# Altium schematic symbol library HW.SchLib: 328 symbols (part 5 of 10)
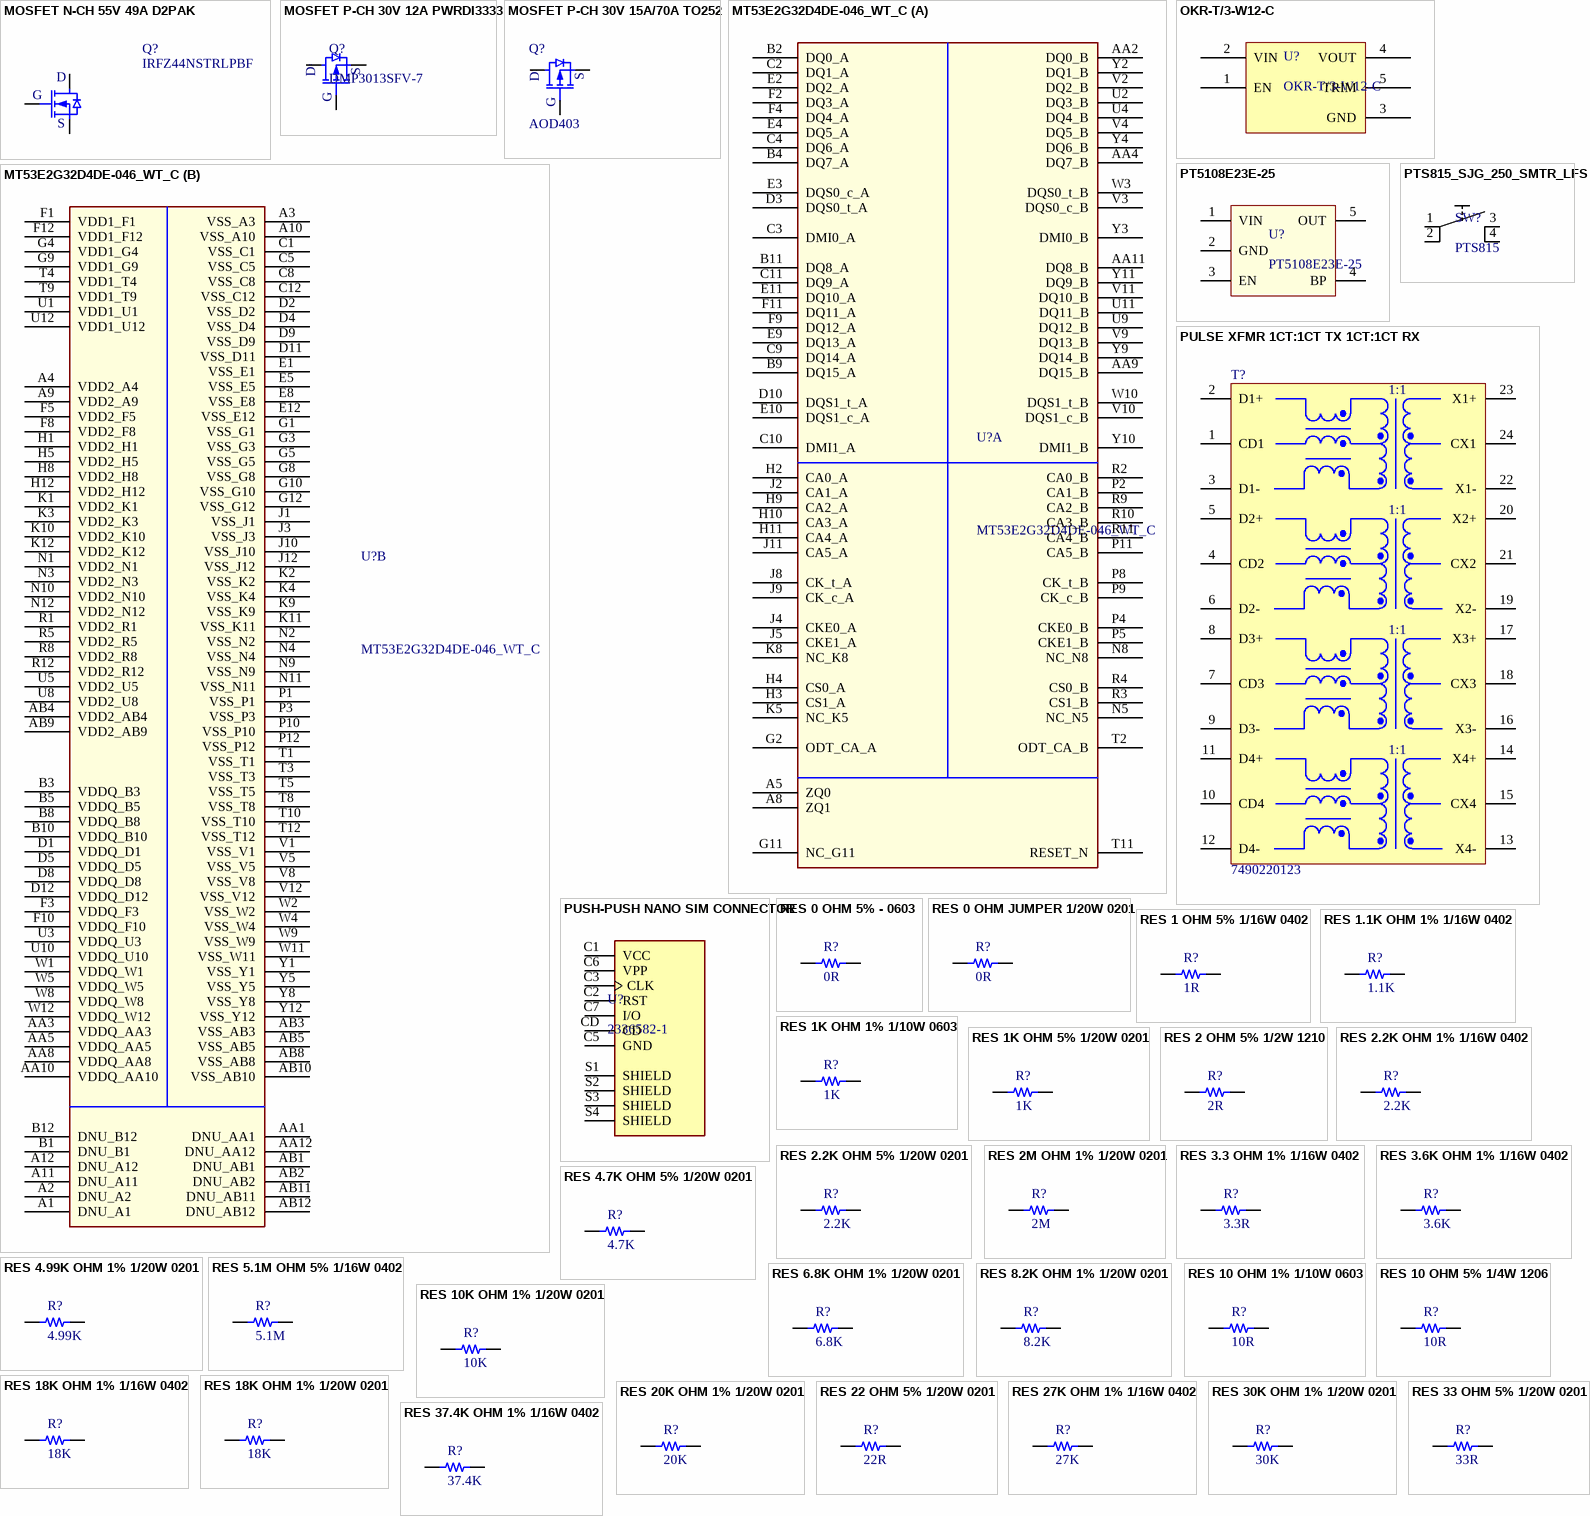
[diagram p27: symbols MOSFET N-CH 55V 49A D2PAK to RES 37.4K OHM 1% 1/16W 0402]

## RES 0 OHM JUMPER 1/20W 0201
designator R?, comment 0R
Zero Ohm Resistor, Jumper, 0201 [0603 Metric], Thick Film, 50 mW, 500 mA, Surface Mount; Manufacturer: Yageo; Manufacturer Part Number: RC0201JR-070RL; Power Rating: 50mW; Tolerance: 5%; Voltage Rating: 25V; Temperature Coefficient: 200ppm/°C; Supplier 1: Future Electronics; RoHS: Yes; Category: Chip SMD Resistors; Stock 1: 5200000; Pricing 1: 10000=0.0013, 50000=0.0012, 200000=0.0012, 500000=0.0011, 1250000=0.001 (USD); Case/Package: 0201; Contact Plating: Tin,Matte; Case Code (Metric): 0603; Case Code (Imperial): 0201; Weight: 6E-06oz; Size Code: 0201; Min Operating Temperature: -55°C; Max Operating Temperature: 125°C; Resistor Type: Thick Film; Packaging: Tape and Reel; Resistance: 0R; Package Quantity: 1; Series: RC; Number of Terminations: 2; Termination: SMD/SMT; Max Power Dissipation: 50mW; Voltage Rating (DC): 25V; Features: Moisture Resistant; Resistance Tolerance: 5%; Length: 0.024inch; Width: 0.012inch; Height: 0.01inch; RoHS Compliant: Yes; Lead Free: 5697LeadFree; Reach SVHC Compliant: Unknown; ComponentLink1URL: https://datasheet.ciiva.com/7672/1563626-7672248.pdf?src-supplier=Element14; ComponentLink1Description: https://datasheet.ciiva.com/7672/1563626-7672248.pdf?src-supplier=Element14; ComponentLink2URL: https://datasheet.ciiva.com/7660/1421516-7660808.pdf?src-supplier=Element14; ComponentLink2Description: https://datasheet.ciiva.com/7660/1421516-7660808.pdf?src-supplier=Element14; ComponentLink3URL: https://datasheet.ciiva.com/8896/pyu-rc0201-51-rohs-l-8-8896143.pdf?src-supplier=Avnet; ComponentLink3Description: https://datasheet.ciiva.com/8896/pyu-rc0201-51-rohs-l-8-8896143.pdf?src-supplier=Avnet; ComponentLink4URL: https://datasheet.ciiva.com/7672/1563626-7672247.pdf?src-supplier=Element14; ComponentLink4Description: https://datasheet.ciiva.com/7672/1563626-7672247.pdf?src-supplier=Element14; ComponentLink5URL: https://datasheet.ciiva.com/46391/1421516-46391340.pdf?src-supplier=Element14; ComponentLink5Description: https://datasheet.ciiva.com/46391/1421516-46391340.pdf?src-supplier=Element14; Supplier Part Number 1: 9983388
footprint R0201
pins: 1, 2

## RES 1 OHM 5% 1/16W 0402
designator R?, comment 1R
SMD Chip Resistor, 1 Ohm, ± 5%, 63 mW, 0402 [1005 Metric], Thick Film, General Purpose; Manufacturer: Yageo; Manufacturer Part Number: RC0402JR-071RL; Power Rating: 62.5mW; Voltage Rating: 50V; Temperature Coefficient: 200ppm/°C; Max Power Dissipation: 63mW; Supplier 1: Arrow Electronics; RoHS: Yes; Category: Chip SMD Resistors; Stock 1: 90000; Pricing 1: 10000=0.0018, 50000=0.0018, 100000=0.0017 (USD); Case/Package: 0402; Case Code (Imperial): 0402; Case Code (Metric): 1005; Size Code: 0402; Min Operating Temperature: -55°C; Max Operating Temperature: 155°C; Packaging: Tape and Reel; Resistance: 1R; Tolerance: 5%; Termination: SMD/SMT; Resistor Type: Thick Film; Voltage Rating (DC): 50V; Features: Moisture Resistant; Series: RC; Number of Terminations: 2; Resistance Tolerance: 5%; Lead Free: Lead Free; RoHS Compliant: Yes; Reach SVHC Compliant: Unknown; ComponentLink1URL: https://datasheet.ciiva.com/7983/1018594-7983561.pdf?src-supplier=Element14; ComponentLink1Description: https://datasheet.ciiva.com/7983/1018594-7983561.pdf?src-supplier=Element14; ComponentLink2URL: https://datasheet.ciiva.com/16747/pyu-rc0402-51-rohs-l-6-r-16747305.pdf?src-supplier=Future+Electronics; ComponentLink2Description: https://datasheet.ciiva.com/16747/pyu-rc0402-51-rohs-l-6-r-16747305.pdf?src-supplier=Future+Electronics; Supplier Part Number 1: RC0402JR-071RL
footprint R0402B/1005MM
pins: 1, 2

## RES 1.1K OHM 1% 1/16W 0402
designator R?, comment 1.1K
SMD Chip Resistor, 1.1 kOhm, ± 1%, 63 mW, 0402 [1005 Metric], Thick Film, General Purpose; Manufacturer: Yageo; Manufacturer Part Number: AC0402FR-071K1L; Voltage Rating: 50V; Supplier 1: Future Electronics; RoHS: Yes; Category: Chip SMD Resistors; Stock 1: 140000; Pricing 1: 10000=0.0024, 50000=0.0023, 300000=0.0021, 1000000=0.002, 3000000=0.0019 (USD); ComponentLink1URL: http://www.yageo.com/NewPortal/yageodocoutput?fileName=/pdf/R-Chip/PYu-AC_51_RoHS_L_6.pdf&src-supplier=Digikey; ComponentLink1Description: http://www.yageo.com/NewPortal/yageodocoutput?fileName=/pdf/R-Chip/PYu-AC_51_RoHS_L_6.pdf&src-supplier=Digikey; ComponentLink2URL: http://www.yageo.com/NewPortal/yageodocoutput?fileName=/pdf/R-Chip/PYu-AC_51_RoHS_L_5.pdf&src-supplier=Digikey; ComponentLink2Description: http://www.yageo.com/NewPortal/yageodocoutput?fileName=/pdf/R-Chip/PYu-AC_51_RoHS_L_5.pdf&src-supplier=Digikey; ComponentLink3URL: http://www.yageo.com/documents/recent/PYu-AC_51_RoHS_L_2_revised.pdf?src-supplier=Future+Electronics; ComponentLink3Description: http://www.yageo.com/documents/recent/PYu-AC_51_RoHS_L_2_revised.pdf?src-supplier=Future+Electronics; ComponentLink4URL: https://datasheet.octopart.com/AC0402FR-071K1L-Yageo-datasheet-151884373.pdf?src-supplier=Future+Electronics; ComponentLink4Description: https://datasheet.octopart.com/AC0402FR-071K1L-Yageo-datasheet-151884373.pdf?src-supplier=Future+Electronics; Supplier Part Number 1: 5025351
footprint R0402B/1005MM
pins: 1, 2

## RES 1K OHM 1% 1/10W 0603
designator R?, comment 1K
SMD Chip Resistor, 1 kOhm, ± 1%, 100 mW, 0603 [1608 Metric], Thick Film, General Purpose; Manufacturer: Yageo; Manufacturer Part Number: RC0603FR-071KL; Resistance: 1kR; Temperature Coefficient: 100ppm/°C; Power Rating: 100mW; Voltage Rating: 50V; Supplier 1: Future Electronics; RoHS: Yes; Category: Chip SMD Resistors; Stock 1: 22880000; Pricing 1: 5000=0.0014, 50000=0.0014, 150000=0.0013, 375000=0.0013, 1000000=0.0012 (USD); Case/Package: 0603; Contact Plating: Tin,Matte; Case Code (Imperial): 0603; Case Code (Metric): 1608; Size Code: 0603; Min Operating Temperature: -55°C; Max Operating Temperature: 155°C; Tolerance: 1%; Resistor Type: Thick Film; Packaging: Tape and Reel; Termination: SMD/SMT; Features: Moisture Resistant; Series: RC; Max Power Dissipation: 100mW; Number of Terminations: 2; Technology: THICK FILM; Resistance Tolerance: 1%; Construction: Rectangular; Length: 1.6mm; Height: 0.45mm; Depth: 0.8mm; Reach SVHC Compliant: No; Lead Free: 5697LeadFree; Military Standard: Not; RoHS Compliant: Yes; Supplier Part Number 1: 4016291
footprint R0603B/1608MM (Chip Resistor, 2-Leads, Body 1.6x0.8mm, IPC High Density)
pins: 1, 2

## RES 1K OHM 5% 1/20W 0201
designator R?, comment 1K
SMD Chip Resistor, 1 kOhm, ± 5%, 50 mW, 0201 [0603 Metric], Thick Film, General Purpose; Manufacturer: Yageo; Manufacturer Part Number: RC0201JR-071KL; Voltage Rating (DC): 25V; Supplier 1: Future Electronics; RoHS: Yes; Category: Chip SMD Resistors; Stock 1: 700000; Pricing 1: 10000=0.0012, 50000=0.0012, 200000=0.0011, 500000=0.0011, 1250000=0.001 (USD); Lead Free: 5697LeadFree; ComponentLink1URL: https://datasheet.ciiva.com/46391/1421516-46391293.pdf?src-supplier=Element14; ComponentLink1Description: https://datasheet.ciiva.com/46391/1421516-46391293.pdf?src-supplier=Element14; ComponentLink2URL: https://datasheet.ciiva.com/7660/1421516-7660811.pdf?src-supplier=Element14; ComponentLink2Description: https://datasheet.ciiva.com/7660/1421516-7660811.pdf?src-supplier=Element14; ComponentLink3URL: https://datasheet.ciiva.com/7672/1563626-7672264.pdf?src-supplier=Element14; ComponentLink3Description: https://datasheet.ciiva.com/7672/1563626-7672264.pdf?src-supplier=Element14; ComponentLink4URL: https://datasheet.ciiva.com/7672/1563626-7672265.pdf?src-supplier=Element14; ComponentLink4Description: https://datasheet.ciiva.com/7672/1563626-7672265.pdf?src-supplier=Element14; ComponentLink5URL: https://datasheet.ciiva.com/8896/pyu-rc0201-51-rohs-l-8-8896175.pdf?src-supplier=Avnet; ComponentLink5Description: https://datasheet.ciiva.com/8896/pyu-rc0201-51-rohs-l-8-8896175.pdf?src-supplier=Avnet; ComponentLink6URL: https://datasheet.ciiva.com/2462/pyu-r-int-thick-7-2462829.pdf?src-supplier=Digikey; ComponentLink6Description: https://datasheet.ciiva.com/2462/pyu-r-int-thick-7-2462829.pdf?src-supplier=Digikey; ComponentLink7URL: https://datasheet.ciiva.com/2462/pyu-r-int-thick-7-2462830.pdf?src-supplier=Digikey; ComponentLink7Description: https://datasheet.ciiva.com/2462/pyu-r-int-thick-7-2462830.pdf?src-supplier=Digikey; ComponentLink8URL: https://datasheet.ciiva.com/2462/pyu-r-int-thick-7-2462831.pdf?src-supplier=Digikey; ComponentLink8Description: https://datasheet.ciiva.com/2462/pyu-r-int-thick-7-2462831.pdf?src-supplier=Digikey; Supplier Part Number 1: 8889099
footprint R0201
pins: 1, 2

## RES 2 OHM 5% 1/2W 1210
designator R?, comment 2R
Res Thick Film 1210 2 Ohm 5% 1/2W ±200ppm/°C Molded SMD SMD Paper T/R; Manufacturer: Yageo; Manufacturer Part Number: RC1210JR-072RL; Supplier 1: Digikey; RoHS: Yes; Category: Chip SMD Resistors; Stock 1: 5088; Pricing 1: 1=0.21, 10=0.113, 50=0.0772, 100=0.0664, 500=0.04876, 1000=0.0432 (USD); ComponentLink1URL: https://datasheet.ciiva.com/16741/pyu-rc1210-51-rohs-l-4-16741479.pdf?src-supplier=Future+Electronics; ComponentLink1Description: https://datasheet.ciiva.com/16741/pyu-rc1210-51-rohs-l-4-16741479.pdf?src-supplier=Future+Electronics; Supplier Part Number 1: 13-RC1210JR-072RLCT-ND
footprint R1210/3225MM
pins: 1, 2

## RES 2.2K OHM 1% 1/16W 0402
designator R?, comment 2.2K
SMD Chip Resistor, 2.2 kOhm, ± 1%, 62.5 mW, 0402 [1005 Metric], Thick Film, General Purpose; Manufacturer: Yageo; Manufacturer Part Number: RC0402FR-072K2L; Resistance: 2.2kR; Power Rating: 62.5mW; Voltage Rating: 50V; Temperature Coefficient: 100ppm/°C; Max Power Dissipation: 63mW; Supplier 1: Future Electronics; RoHS: Yes; Category: Chip SMD Resistors; Stock 1: 2730000; Pricing 1: 10000=0.0011, 100000=0.001, 300000=0.001, 750000=0.001, 2000000=0.0009 (USD); Case/Package: 0402; Case Code (Imperial): 0402; Case Code (Metric): 1005; Weight: 2.3E-05oz; Size Code: 0402; Min Operating Temperature: -55°C; Max Operating Temperature: 155°C; Resistor Type: Thick Film; Packaging: Tape and Reel; Tolerance: 1%; Termination: SMD/SMT; Features: Moisture Resistant; Series: RC; Number of Terminations: 2; Resistance Tolerance: 1%; Construction: Rectangular; Technology: THICK FILM; Voltage Rating (AC): 50V; Length: 1mm; Width: 0.5mm; Height: 0.35mm; Depth: 0.5mm; RoHS Compliant: Yes; Reach SVHC Compliant: No; Military Standard: Not; Lead Free: Lead Free; ComponentLink1URL: https://datasheet.ciiva.com/11808/0900766b80c66297-11808786.pdf?src-supplier=Rs; ComponentLink1Description: https://datasheet.ciiva.com/11808/0900766b80c66297-11808786.pdf?src-supplier=Rs; ComponentLink2URL: https://datasheet.ciiva.com/7983/1018594-7983515.pdf?src-supplier=Element14; ComponentLink2Description: https://datasheet.ciiva.com/7983/1018594-7983515.pdf?src-supplier=Element14; ComponentLink3URL: https://datasheet.ciiva.com/46383/1018594-46383563.pdf?src-supplier=Element14; ComponentLink3Description: https://datasheet.ciiva.com/46383/1018594-46383563.pdf?src-supplier=Element14; ComponentLink4URL: https://datasheet.ciiva.com/12577/pyu-rc0402-51-rohs-l-6-r-12577429.pdf?src-supplier=Mouser; ComponentLink4Description: https://datasheet.ciiva.com/12577/pyu-rc0402-51-rohs-l-6-r-12577429.pdf?src-supplier=Mouser; ComponentLink5URL: https://datasheet.ciiva.com/7849/1018594-7849929.pdf?src-supplier=Element14; ComponentLink5Description: https://datasheet.ciiva.com/7849/1018594-7849929.pdf?src-supplier=Element14; ComponentLink6URL: https://datasheet.ciiva.com/7849/1018594-7849928.pdf?src-supplier=Element14; ComponentLink6Description: https://datasheet.ciiva.com/7849/1018594-7849928.pdf?src-supplier=Element14; ComponentLink7URL: https://datasheet.ciiva.com/16741/pyu-rc0402-51-rohs-l-6-r-16741015.pdf?src-supplier=Future+Electronics; ComponentLink7Description: https://datasheet.ciiva.com/16741/pyu-rc0402-51-rohs-l-6-r-16741015.pdf?src-supplier=Future+Electronics; Supplier Part Number 1: 6626931
footprint R0402B/1005MM
pins: 1, 2

## RES 2.2K OHM 5% 1/20W 0201
designator R?, comment 2.2K
SMD Chip Resistor, 2.2 kOhm, ± 5%, 50 mW, 0201 [0603 Metric], Thick Film, General Purpose; Manufacturer: Yageo; Manufacturer Part Number: RC0201JR-072K2L; Voltage Rating (DC): 25V; Supplier 1: Future Electronics; RoHS: Yes; Category: Chip SMD Resistors; Stock 1: 570000; Pricing 1: 10000=0.0013, 50000=0.0012, 200000=0.0012, 500000=0.0011, 1250000=0.001 (USD); Lead Free: 5697LeadFree; ComponentLink1URL: https://datasheet.ciiva.com/7672/1563626-7672277.pdf?src-supplier=Element14; ComponentLink1Description: https://datasheet.ciiva.com/7672/1563626-7672277.pdf?src-supplier=Element14; ComponentLink2URL: https://datasheet.ciiva.com/7983/1421516-7983483.pdf?src-supplier=Element14; ComponentLink2Description: https://datasheet.ciiva.com/7983/1421516-7983483.pdf?src-supplier=Element14; ComponentLink3URL: https://datasheet.ciiva.com/26829/getdatasheetpartid-729179-26829877.pdf?src-supplier=Verical; ComponentLink3Description: https://datasheet.ciiva.com/26829/getdatasheetpartid-729179-26829877.pdf?src-supplier=Verical; ComponentLink4URL: https://datasheet.ciiva.com/2522/pyu-r-int-thick-7-2522713.pdf?src-supplier=Digikey; ComponentLink4Description: https://datasheet.ciiva.com/2522/pyu-r-int-thick-7-2522713.pdf?src-supplier=Digikey; ComponentLink5URL: https://datasheet.ciiva.com/2522/pyu-r-int-thick-7-2522714.pdf?src-supplier=Digikey; ComponentLink5Description: https://datasheet.ciiva.com/2522/pyu-r-int-thick-7-2522714.pdf?src-supplier=Digikey; ComponentLink6URL: https://datasheet.ciiva.com/2522/pyu-r-int-thick-7-2522715.pdf?src-supplier=Digikey; ComponentLink6Description: https://datasheet.ciiva.com/2522/pyu-r-int-thick-7-2522715.pdf?src-supplier=Digikey; ComponentLink7URL: https://datasheet.ciiva.com/5989/1563626-5989608.pdf?src-supplier=Farnell; ComponentLink7Description: https://datasheet.ciiva.com/5989/1563626-5989608.pdf?src-supplier=Farnell; ComponentLink8URL: https://datasheet.ciiva.com/5989/1563626-5989609.pdf?src-supplier=Farnell; ComponentLink8Description: https://datasheet.ciiva.com/5989/1563626-5989609.pdf?src-supplier=Farnell; ComponentLink9URL: https://datasheet.ciiva.com/8894/pyu-rc0201-51-rohs-l-8-8894629.pdf?src-supplier=Avnet; ComponentLink9Description: https://datasheet.ciiva.com/8894/pyu-rc0201-51-rohs-l-8-8894629.pdf?src-supplier=Avnet; Supplier Part Number 1: 3342789
footprint R0201
pins: 1, 2

## RES 2M OHM 1% 1/20W 0201
designator R?, comment 2M
SMD Chip Resistor, 2 MOhm, ± 1%, 50 mW, 0201 [0603 Metric], Thick Film, General Purpose; Manufacturer: Yageo; Manufacturer Part Number: RC0201FR-072ML; Voltage Rating: 25V; Supplier 1: Future Electronics; RoHS: Yes; Category: Chip SMD Resistors; Stock 1: 30000; Pricing 1: 10000=0.0012, 50000=0.0012, 200000=0.0011, 500000=0.0011, 1250000=0.001 (USD); ComponentLink1URL: http://www.yageo.com/NewPortal/_en/search/productDocs.jsp?YageoPartNumber=RC0201FR-072ML&src-supplier=Digikey; ComponentLink1Description: http://www.yageo.com/NewPortal/_en/search/productDocs.jsp?YageoPartNumber=RC0201FR-072ML&src-supplier=Digikey; ComponentLink2URL: https://datasheet.octopart.com/RC0201FR-072ML-Yageo-datasheet-164759695.pdf?src-supplier=Future+Electronics; ComponentLink2Description: https://datasheet.octopart.com/RC0201FR-072ML-Yageo-datasheet-164759695.pdf?src-supplier=Future+Electronics; Supplier Part Number 1: 7095703
footprint R0201
pins: 1, 2

## RES 3.3 OHM 1% 1/16W 0402
designator R?, comment 3.3R
SMD Chip Resistor, 3.3 Ohm, ± 1%, 63 mW, 0402 [1005 Metric], Thick Film, General Purpose; Manufacturer: Yageo; Manufacturer Part Number: RC0402FR-073R3L; Supplier 1: Future Electronics; RoHS: Yes; Category: Chip SMD Resistors; Stock 1: 720000; Pricing 1: 10000=0.0028, 40000=0.0027, 200000=0.0026, 400000=0.0025, 1250000=0.0024 (USD); ComponentLink1URL: https://datasheet.ciiva.com/7849/1018594-7849999.pdf?src-supplier=Element14; ComponentLink1Description: https://datasheet.ciiva.com/7849/1018594-7849999.pdf?src-supplier=Element14; ComponentLink2URL: https://datasheet.ciiva.com/8893/pyu-rc0402-51-rohs-l-6-8893711.pdf?src-supplier=Avnet; ComponentLink2Description: https://datasheet.ciiva.com/8893/pyu-rc0402-51-rohs-l-6-8893711.pdf?src-supplier=Avnet; Supplier Part Number 1: 1935006
footprint R0402B/1005MM
pins: 1, 2

## RES 3.6K OHM 1% 1/16W 0402
designator R?, comment 3.6K
SMD Chip Resistor, 3.6 kOhm, ± 1%, 63 mW, 0402 [1005 Metric], Thick Film, General Purpose; Manufacturer: Yageo; Manufacturer Part Number: RC0402FR-073K6L; Resistance: 3.6kR; Power Rating: 62.5mW; Voltage Rating: 50V; Temperature Coefficient: 100ppm/°C; Max Power Dissipation: 63mW; Supplier 1: Future Electronics; RoHS: Yes; Category: Chip SMD Resistors; Stock 1: 180000; Pricing 1: 10000=0.0008, 100000=0.0007, 300000=0.0007, 750000=0.0007, 2000000=0.0006 (USD); Case/Package: 0402; Number of Pins: 2; Case Code (Imperial): 0402; Case Code (Metric): 1005; Weight: 2.3E-05oz; Size Code: 0402; Min Operating Temperature: -55°C; Max Operating Temperature: 155°C; Package Quantity: 1; Tolerance: 1%; Packaging: Tape and Reel; Resistor Type: Thick Film; Termination: SMD/SMT; Number of Terminations: 2; Voltage Rating (DC): 50V; Features: Moisture Resistant; Series: RC; Construction: Rectangular; Resistance Tolerance: 1%; Length: 1mm; Width: 0.5mm; Height: 0.016inch; Depth: 0.5mm; Reach SVHC Compliant: No; Military Standard: Not; Lead Free: Lead Free; RoHS Compliant: Yes; ComponentLink1URL: https://datasheet.ciiva.com/2553/pyu-r-int-thick-7-2553270.pdf?src-supplier=Digikey; ComponentLink1Description: https://datasheet.ciiva.com/2553/pyu-r-int-thick-7-2553270.pdf?src-supplier=Digikey; ComponentLink2URL: https://datasheet.ciiva.com/2553/pyu-r-int-thick-7-2553271.pdf?src-supplier=Digikey; ComponentLink2Description: https://datasheet.ciiva.com/2553/pyu-r-int-thick-7-2553271.pdf?src-supplier=Digikey; ComponentLink3URL: https://datasheet.ciiva.com/2553/pyu-r-int-thick-7-2553269.pdf?src-supplier=Digikey; ComponentLink3Description: https://datasheet.ciiva.com/2553/pyu-r-int-thick-7-2553269.pdf?src-supplier=Digikey; ComponentLink4URL: https://datasheet.ciiva.com/15189/getdatasheetpartid-326454-15189451.pdf?src-supplier=Verical; ComponentLink4Description: https://datasheet.ciiva.com/15189/getdatasheetpartid-326454-15189451.pdf?src-supplier=Verical; Supplier Part Number 1: 6373997
footprint R0402B/1005MM
pins: 1, 2

## RES 4.7K OHM 5% 1/20W 0201
designator R?, comment 4.7K
SMD Chip Resistor, 4.7 kOhm, ± 5%, 50 mW, 0201 [0603 Metric], Thick Film, General Purpose; Manufacturer: Yageo; Manufacturer Part Number: RC0201JR-074K7L; Voltage Rating (DC): 25V; Supplier 1: Future Electronics; RoHS: Yes; Category: Chip SMD Resistors; Stock 1: 1670000; Pricing 1: 10000=0.0011, 50000=0.0011, 250000=0.001, 500000=0.001, 1500000=0.0009 (USD); Lead Free: 5697LeadFree; ComponentLink1URL: https://datasheet.ciiva.com/2462/pyu-r-int-thick-7-2462791.pdf?src-supplier=Digikey; ComponentLink1Description: https://datasheet.ciiva.com/2462/pyu-r-int-thick-7-2462791.pdf?src-supplier=Digikey; ComponentLink2URL: https://datasheet.ciiva.com/2462/pyu-r-int-thick-7-2462792.pdf?src-supplier=Digikey; ComponentLink2Description: https://datasheet.ciiva.com/2462/pyu-r-int-thick-7-2462792.pdf?src-supplier=Digikey; ComponentLink3URL: https://datasheet.ciiva.com/2462/pyu-r-int-thick-7-2462790.pdf?src-supplier=Digikey; ComponentLink3Description: https://datasheet.ciiva.com/2462/pyu-r-int-thick-7-2462790.pdf?src-supplier=Digikey; ComponentLink4URL: https://datasheet.ciiva.com/7672/1563626-7672295.pdf?src-supplier=Element14; ComponentLink4Description: https://datasheet.ciiva.com/7672/1563626-7672295.pdf?src-supplier=Element14; ComponentLink5URL: https://datasheet.ciiva.com/7672/1563626-7672296.pdf?src-supplier=Element14; ComponentLink5Description: https://datasheet.ciiva.com/7672/1563626-7672296.pdf?src-supplier=Element14; Supplier Part Number 1: 7808587
footprint R0201
pins: 1, 2

## RES 4.99K OHM 1% 1/20W 0201
designator R?, comment 4.99K
SMD Chip Resistor, 4.99 kOhm, ± 1%, 50 mW, 0201 [0603 Metric], Thick Film, General Purpose; Manufacturer: Yageo; Manufacturer Part Number: RC0201FR-074K99L; Voltage Rating: 25V; Supplier 1: Future Electronics; RoHS: Yes; Category: Chip SMD Resistors; Stock 1: 210000; Pricing 1: 10000=0.0018, 50000=0.0017, 200000=0.0016, 500000=0.0016, 1250000=0.0015 (USD); Lead Free: 5697LeadFree; ComponentLink1URL: https://www.yageo.com/upload/media/product/productsearch/datasheet/rchip/PYu-RC_Group_51_RoHS_L_11.pdf?src-supplier=Digikey; ComponentLink1Description: https://www.yageo.com/upload/media/product/productsearch/datasheet/rchip/PYu-RC_Group_51_RoHS_L_11.pdf?src-supplier=Digikey; ComponentLink2URL: http://www.yageo.com/documents/recent/PYu-RC_Group_51_RoHS_L_10.pdf?src-supplier=Digikey; ComponentLink2Description: http://www.yageo.com/documents/recent/PYu-RC_Group_51_RoHS_L_10.pdf?src-supplier=Digikey; ComponentLink3URL: https://datasheet.octopart.com/RC0201FR-074K99L-Yageo-datasheet-164759695.pdf?src-supplier=Future+Electronics; ComponentLink3Description: https://datasheet.octopart.com/RC0201FR-074K99L-Yageo-datasheet-164759695.pdf?src-supplier=Future+Electronics; Supplier Part Number 1: 6066788
footprint R0201
pins: 1, 2

## RES 5.1M OHM 5% 1/16W 0402
designator R?, comment 5.1M
SMD Chip Resistor, 5.1 MOhm, ± 5%, 63 mW, 0402 [1005 Metric], Thick Film, General Purpose; Manufacturer: Yageo; Manufacturer Part Number: RC0402JR-075M1L; Supplier 1: Future Electronics; RoHS: Yes; Category: Chip SMD Resistors; Stock 1: 20000; Pricing 1: 10000=0.0008, 100000=0.0007, 300000=0.0007, 750000=0.0007, 2000000=0.0006 (USD); ComponentLink1URL: https://datasheet.ciiva.com/17086/pyu-rc0402-51-rohs-l-6-r-17086462.pdf?src-supplier=Future+Electronics; ComponentLink1Description: https://datasheet.ciiva.com/17086/pyu-rc0402-51-rohs-l-6-r-17086462.pdf?src-supplier=Future+Electronics; ComponentLink2URL: https://datasheet.ciiva.com/8892/pyu-rc0402-51-rohs-l-6-8892758.pdf?src-supplier=Avnet; ComponentLink2Description: https://datasheet.ciiva.com/8892/pyu-rc0402-51-rohs-l-6-8892758.pdf?src-supplier=Avnet; Supplier Part Number 1: 3916483
footprint R0402B/1005MM
pins: 1, 2

## RES 6.8K OHM 1% 1/20W 0201
designator R?, comment 6.8K
SMD Chip Resistor, 6.8 kOhm, ± 1%, 50 mW, 0201 [0603 Metric], Thick Film, General Purpose; Manufacturer: Yageo; Manufacturer Part Number: RC0201FR-076K8L; Supplier 1: Future Electronics; RoHS: Yes; Category: Chip SMD Resistors; Stock 1: 80000; Pricing 1: 10000=0.0033, 50000=0.0031, 200000=0.003, 500000=0.0029, 1250000=0.0028 (USD); ComponentLink1URL: https://datasheet.ciiva.com/14985/pyu-r-int-thick-7-14985433.pdf?src-supplier=Digikey; ComponentLink1Description: https://datasheet.ciiva.com/14985/pyu-r-int-thick-7-14985433.pdf?src-supplier=Digikey; Supplier Part Number 1: 5265012
footprint R0201
pins: 1, 2

## RES 8.2K OHM 1% 1/20W 0201
designator R?, comment 8.2K
SMD Chip Resistor, 8.2 kOhm, ± 1%, 50 mW, 0201 [0603 Metric], Thick Film, General Purpose; Manufacturer: Yageo; Manufacturer Part Number: RC0201FR-078K2L; Supplier 1: Avnet; RoHS: Yes; Category: Chip SMD Resistors; Stock 1: 6691; Pricing 1: 1=0.104, 25=0.015, 100=0.008, 250=0.007, 500=0.006 (USD); ComponentLink1URL: https://datasheet.ciiva.com/14985/pyu-r-int-thick-7-14985436.pdf?src-supplier=Digikey; ComponentLink1Description: https://datasheet.ciiva.com/14985/pyu-r-int-thick-7-14985436.pdf?src-supplier=Digikey; Supplier Part Number 1: 49AK1148
footprint R0201
pins: 1, 2

## RES 10 OHM 1% 1/10W 0603
designator R?, comment 10R
SMD Chip Resistor, 10 Ohm, ± 1%, 100 mW, 0603 [1608 Metric], Thick Film, General Purpose; Manufacturer: Yageo; Manufacturer Part Number: RC0603FR-0710RL; Voltage Rating (DC): 50V; Temperature Coefficient: 200ppm/°C; Max Power Dissipation: 100mW; Supplier 1: Future Electronics; RoHS: Yes; Category: Chip SMD Resistors; Stock 1: 1450000; Pricing 1: 5000=0.0036, 20000=0.0035, 100000=0.0033, 200000=0.0033, 625000=0.0031 (USD); Case/Package: 0603; Number of Pins: 2; Case Code (Imperial): 0603; Case Code (Metric): 1608; Size Code: 0603; Contact Plating: Tin,Matte; Min Operating Temperature: -55°C; Max Operating Temperature: 155°C; Packaging: Tape and Reel; Resistance: 10R; Tolerance: 1%; Series: RC; Number of Terminations: 2; Features: Moisture Resistant; Power Rating: 100mW; Voltage Rating: 50V; Termination: SMD/SMT; Technology: THICK FILM; Resistor Type: Thick Film; Resistance Tolerance: 1%; Construction: Rectangular; Voltage Rating (AC): 50V; Length: 1.6mm; Width: 0.8mm; Height: 0.45mm; Depth: 0.8mm; Lead Free: Lead Free; RoHS Compliant: Yes; Reach SVHC Compliant: No; Military Standard: Not; ComponentLink1URL: https://datasheet.ciiva.com/11808/0900766b80f96399-11808140.pdf?src-supplier=Rs; ComponentLink1Description: https://datasheet.ciiva.com/11808/0900766b80f96399-11808140.pdf?src-supplier=Rs; ComponentLink2URL: https://datasheet.ciiva.com/8891/pyu-rc0603-51-rohs-l-4-8891285.pdf?src-supplier=Avnet; ComponentLink2Description: https://datasheet.ciiva.com/8891/pyu-rc0603-51-rohs-l-4-8891285.pdf?src-supplier=Avnet; ComponentLink3URL: https://datasheet.ciiva.com/7746/443971-7746245.pdf?src-supplier=Element14; ComponentLink3Description: https://datasheet.ciiva.com/7746/443971-7746245.pdf?src-supplier=Element14; Supplier Part Number 1: 4028866
footprint R0603B/1608MM (Chip Resistor, 2-Leads, Body 1.6x0.8mm, IPC High Density)
pins: 1, 2

## RES 10 OHM 5% 1/4W 1206
designator R?, comment 10R
SMD Chip Resistor, 10 Ohm, ± 5%, 250 mW, 1206 [3216 Metric], Thick Film, General Purpose; Manufacturer: Yageo; Manufacturer Part Number: RC1206JR-0710RL; Power Rating: 250mW; Voltage Rating: 200V; Temperature Coefficient: 200ppm/°C; Supplier 1: Future Electronics; RoHS: Yes; Category: Chip SMD Resistors; Stock 1: 445000; Pricing 1: 5000=0.009, 20000=0.0087, 50000=0.0085, 125000=0.0083, 200000=0.008 (USD); Case/Package: 1206; Case Code (Metric): 3216; Case Code (Imperial): 1206; Size Code: 1206; Min Operating Temperature: -55°C; Max Operating Temperature: 155°C; Package Quantity: 1; Resistance: 10R; Tolerance: 5%; Packaging: Tape and Reel; Resistor Type: Thick Film; Number of Terminations: 2; Termination: SMD/SMT; Max Power Dissipation: 250mW; Features: Moisture Resistant; Series: RC; Resistance Tolerance: 5%; Voltage Rating (AC): 200V; Length: 0.122inch; Width: 0.063inch; Height: 0.026inch; Lead Free: Lead Free; RoHS Compliant: Yes; Reach SVHC Compliant: Unknown; ComponentLink1URL: https://datasheet.ciiva.com/2458/pyu-rc1206-51-rohs-l-4-2458753.pdf?src-supplier=Digikey; ComponentLink1Description: https://datasheet.ciiva.com/2458/pyu-rc1206-51-rohs-l-4-2458753.pdf?src-supplier=Digikey; ComponentLink2URL: https://datasheet.ciiva.com/2458/pyu-r-int-thick-7-2458754.pdf?src-supplier=Digikey; ComponentLink2Description: https://datasheet.ciiva.com/2458/pyu-r-int-thick-7-2458754.pdf?src-supplier=Digikey; ComponentLink3URL: https://datasheet.ciiva.com/2458/pyu-rc1206-51-rohs-l-4-2458752.pdf?src-supplier=Digikey; ComponentLink3Description: https://datasheet.ciiva.com/2458/pyu-rc1206-51-rohs-l-4-2458752.pdf?src-supplier=Digikey; Supplier Part Number 1: 4732285
footprint R1206B/3216MM (Chip Resistor, 2-Leads, Body 3.2x1.6mm, IPC Medium Density)
pins: 1, 2

## RES 10K OHM 1% 1/20W 0201
designator R?, comment 10K
SMD Chip Resistor, 10 kOhm, ± 1%, 50 mW, 0201 [0603 Metric], Thick Film, General Purpose; Manufacturer: Yageo; Manufacturer Part Number: RC0201FR-0710KL; Resistance: 10kR; Temperature Coefficient: 200ppm/°C; Power Rating: 50mW; Voltage Rating: 25V; Supplier 1: Future Electronics; RoHS: Yes; Category: Chip SMD Resistors; Stock 1: 39490000; Pricing 1: 10000=0.0013, 50000=0.0012, 200000=0.0012, 500000=0.0011, 1250000=0.001 (USD); Case/Package: 0201; Number of Pins: 2NUMBER; Contact Plating: Tin,Matte; Case Code (Imperial): 0201; Case Code (Metric): 0603; Weight: 6E-06oz; Min Operating Temperature: -55°C; Max Operating Temperature: 125°C; Tolerance: 1%; Packaging: Tape and Reel; Package Quantity: 10000; Termination: SMD/SMT; Resistor Type: Thick Film; Series: RC; Number of Terminations: 2; Max Power Dissipation: 50mW; Working Voltage: 25V; Features: Moisture Resistant; Technology: THICK FILM; Resistance Tolerance: 1%; Construction: Rectangular; Voltage Rating (DC): 25V; Length: 0.6mm; Width: 0.012inch; Height: 0.01inch; Depth: 0.3mm; RoHS Compliant: Yes; Reach SVHC Compliant: No; Military Standard: Not; Lead Free: 5697LeadFree; ComponentLink1URL: https://datasheet.ciiva.com/46391/1421516-46391339.pdf?src-supplier=Element14; ComponentLink1Description: https://datasheet.ciiva.com/46391/1421516-46391339.pdf?src-supplier=Element14; ComponentLink2URL: https://datasheet.ciiva.com/2467/pyu-r-int-thick-7-2467111.pdf?src-supplier=Digikey; ComponentLink2Description: https://datasheet.ciiva.com/2467/pyu-r-int-thick-7-2467111.pdf?src-supplier=Digikey; ComponentLink3URL: https://datasheet.ciiva.com/2467/pyu-r-int-thick-7-2467109.pdf?src-supplier=Digikey; ComponentLink3Description: https://datasheet.ciiva.com/2467/pyu-r-int-thick-7-2467109.pdf?src-supplier=Digikey; ComponentLink4URL: https://datasheet.ciiva.com/26829/getdatasheetpartid-421074-26829851.pdf?src-supplier=Verical; ComponentLink4Description: https://datasheet.ciiva.com/26829/getdatasheetpartid-421074-26829851.pdf?src-supplier=Verical; ComponentLink5URL: https://datasheet.ciiva.com/8891/pyu-rc0201-51-rohs-l-8-8891384.pdf?src-supplier=Avnet; ComponentLink5Description: https://datasheet.ciiva.com/8891/pyu-rc0201-51-rohs-l-8-8891384.pdf?src-supplier=Avnet; ComponentLink6URL: https://datasheet.ciiva.com/7660/1421516-7660807.pdf?src-supplier=Element14; ComponentLink6Description: https://datasheet.ciiva.com/7660/1421516-7660807.pdf?src-supplier=Element14; ComponentLink7URL: https://datasheet.ciiva.com/2467/pyu-r-int-thick-7-2467110.pdf?src-supplier=Digikey; ComponentLink7Description: https://datasheet.ciiva.com/2467/pyu-r-int-thick-7-2467110.pdf?src-supplier=Digikey; Supplier Part Number 1: 4031233
footprint R0201
pins: 1, 2

## RES 18K OHM 1% 1/16W 0402
designator R?, comment 18K
SMD Chip Resistor, 18 kOhm, ± 1%, 63 mW, 0402 [1005 Metric], Thick Film, General Purpose; Manufacturer: Yageo; Manufacturer Part Number: RC0402FR-0718KL; Resistance: 18kR; Power Rating: 63mW; Voltage Rating: 50V; Temperature Coefficient: 100ppm/°C; Supplier 1: Avnet; RoHS: Yes; Category: Chip SMD Resistors; Stock 1: 5918; Pricing 1: 1=0.104, 25=0.009, 100=0.005, 500=0.004 (USD); Case/Package: 0402; Case Code (Metric): 1005; Case Code (Imperial): 0402; Size Code: 0402; Min Operating Temperature: -55°C; Max Operating Temperature: 155°C; Tolerance: 1%; Packaging: Tape and Reel; Package Quantity: 1; Resistor Type: Thick Film; Number of Terminations: 2; Termination: SMD/SMT; Max Power Dissipation: 63mW; Features: Moisture Resistant; Series: RC; Construction: Rectangular; Technology: THICK FILM; Resistance Tolerance: 1%; Voltage Rating (AC): 50V; Length: 1mm; Width: 0.02inch; Height: 0.016inch; Depth: 0.5mm; Military Standard: Not; RoHS Compliant: Yes; Reach SVHC Compliant: Unknown; Lead Free: 5697LeadFree; ComponentLink1URL: https://datasheet.ciiva.com/11808/0900766b80c66297-11808760.pdf?src-supplier=Rs; ComponentLink1Description: https://datasheet.ciiva.com/11808/0900766b80c66297-11808760.pdf?src-supplier=Rs; ComponentLink2URL: https://datasheet.ciiva.com/2453/pyu-r-int-thick-7-2453605.pdf?src-supplier=Digikey; ComponentLink2Description: https://datasheet.ciiva.com/2453/pyu-r-int-thick-7-2453605.pdf?src-supplier=Digikey; ComponentLink3URL: https://datasheet.ciiva.com/2453/pyu-r-int-thick-7-2453606.pdf?src-supplier=Digikey; ComponentLink3Description: https://datasheet.ciiva.com/2453/pyu-r-int-thick-7-2453606.pdf?src-supplier=Digikey; ComponentLink4URL: https://datasheet.ciiva.com/2453/pyu-r-int-thick-7-2453604.pdf?src-supplier=Digikey; ComponentLink4Description: https://datasheet.ciiva.com/2453/pyu-r-int-thick-7-2453604.pdf?src-supplier=Digikey; ComponentLink5URL: https://datasheet.ciiva.com/5558/pyu-rc0402-51-rohs-l-6-r-8721-5558222.pdf?src-supplier=Mouser; ComponentLink5Description: https://datasheet.ciiva.com/5558/pyu-rc0402-51-rohs-l-6-r-8721-5558222.pdf?src-supplier=Mouser; ComponentLink6URL: https://datasheet.ciiva.com/7849/1018594-7849855.pdf?src-supplier=Element14; ComponentLink6Description: https://datasheet.ciiva.com/7849/1018594-7849855.pdf?src-supplier=Element14; ComponentLink7URL: https://datasheet.ciiva.com/16741/pyu-rc0402-51-rohs-l-6-r-16741882.pdf?src-supplier=Future+Electronics; ComponentLink7Description: https://datasheet.ciiva.com/16741/pyu-rc0402-51-rohs-l-6-r-16741882.pdf?src-supplier=Future+Electronics; Supplier Part Number 1: 49AK1294
footprint R0402B/1005MM
pins: 1, 2

## RES 18K OHM 1% 1/20W 0201
designator R?, comment 18K
SMD Chip Resistor, 18 kOhm, ± 1%, 50 mW, 0201 [0603 Metric], Thick Film, General Purpose; Manufacturer: Yageo; Manufacturer Part Number: RC0201FR-0718KL; Supplier 1: Future Electronics; RoHS: Yes; Category: Chip SMD Resistors; Stock 1: 40000; Pricing 1: 10000=0.0012, 50000=0.0012, 200000=0.0011, 500000=0.0011, 1250000=0.001 (USD); Lead Free: 5697LeadFree; ComponentLink1URL: https://datasheet.ciiva.com/2493/pyu-r-int-thick-7-2493817.pdf?src-supplier=Digikey; ComponentLink1Description: https://datasheet.ciiva.com/2493/pyu-r-int-thick-7-2493817.pdf?src-supplier=Digikey; ComponentLink2URL: https://datasheet.ciiva.com/2493/pyu-r-int-thick-7-2493818.pdf?src-supplier=Digikey; ComponentLink2Description: https://datasheet.ciiva.com/2493/pyu-r-int-thick-7-2493818.pdf?src-supplier=Digikey; ComponentLink3URL: https://datasheet.ciiva.com/2493/pyu-r-int-thick-7-2493819.pdf?src-supplier=Digikey; ComponentLink3Description: https://datasheet.ciiva.com/2493/pyu-r-int-thick-7-2493819.pdf?src-supplier=Digikey; ComponentLink4URL: https://datasheet.ciiva.com/22661/1563626-22661291.pdf?src-supplier=Element14; ComponentLink4Description: https://datasheet.ciiva.com/22661/1563626-22661291.pdf?src-supplier=Element14; Supplier Part Number 1: 7402316
footprint R0201
pins: 1, 2

## RES 20K OHM 1% 1/20W 0201
designator R?, comment 20K
SMD Chip Resistor, 20 kOhm, ± 1%, 50 mW, 0201 [0603 Metric], Thick Film, General Purpose; Manufacturer: Yageo; Manufacturer Part Number: RC0201FR-0720KL; Supplier 1: Arrow Electronics; RoHS: Yes; Category: Chip SMD Resistors; Stock 1: 310000; Pricing 1: 10000=0.0011 (USD); Lead Free: 5697LeadFree; ComponentLink1URL: https://datasheet.ciiva.com/14985/pyu-r-int-thick-7-14985446.pdf?src-supplier=Digikey; ComponentLink1Description: https://datasheet.ciiva.com/14985/pyu-r-int-thick-7-14985446.pdf?src-supplier=Digikey; Supplier Part Number 1: RC0201FR-0720KL
footprint R0201
pins: 1, 2

## RES 22 OHM 5% 1/20W 0201
designator R?, comment 22R
Res Thick Film 0201 22 Ohm 5% 1/20W ±200ppm/°C Molded SMD SMD Paper T/R; Manufacturer: Yageo; Manufacturer Part Number: RC0201JR-0722RL; Supplier 1: Avnet; RoHS: Yes; Category: Chip SMD Resistors; Stock 1: 10000; Pricing 1: 10000=0.00109 (USD); ComponentLink1URL: https://datasheet.ciiva.com/2462/pyu-r-int-thick-7-2462787.pdf?src-supplier=Digikey; ComponentLink1Description: https://datasheet.ciiva.com/2462/pyu-r-int-thick-7-2462787.pdf?src-supplier=Digikey; ComponentLink2URL: https://datasheet.ciiva.com/2462/pyu-r-int-thick-7-2462788.pdf?src-supplier=Digikey; ComponentLink2Description: https://datasheet.ciiva.com/2462/pyu-r-int-thick-7-2462788.pdf?src-supplier=Digikey; ComponentLink3URL: https://datasheet.ciiva.com/2462/pyu-r-int-thick-7-2462789.pdf?src-supplier=Digikey; ComponentLink3Description: https://datasheet.ciiva.com/2462/pyu-r-int-thick-7-2462789.pdf?src-supplier=Digikey; ComponentLink4URL: https://datasheet.ciiva.com/5757/1563626-5757901.pdf?src-supplier=Farnell; ComponentLink4Description: https://datasheet.ciiva.com/5757/1563626-5757901.pdf?src-supplier=Farnell; ComponentLink5URL: https://datasheet.ciiva.com/8890/pyu-rc0201-51-rohs-l-8-8890183.pdf?src-supplier=Avnet; ComponentLink5Description: https://datasheet.ciiva.com/8890/pyu-rc0201-51-rohs-l-8-8890183.pdf?src-supplier=Avnet; Supplier Part Number 1: RC0201JR-0722RL
footprint R0201
pins: 1, 2

## RES 27K OHM 1% 1/16W 0402
designator R?, comment 27K
SMD Chip Resistor, 27 kOhm, ± 1%, 62.5 mW, 0402 [1005 Metric], Thick Film, General Purpose; Manufacturer: Yageo; Manufacturer Part Number: RC0402FR-0727KL; Resistance: 27kR; Power Rating: 63mW; Voltage Rating: 50V; Temperature Coefficient: 100ppm/°C; Supplier 1: Future Electronics; RoHS: Yes; Category: Chip SMD Resistors; Stock 1: 3370000; Pricing 1: 10000=0.0011, 100000=0.001, 300000=0.001, 750000=0.001, 2000000=0.0009 (USD); Case/Package: 0402; Case Code (Imperial): 0402; Case Code (Metric): 1005; Size Code: 0402; Min Operating Temperature: -55°C; Max Operating Temperature: 155°C; Tolerance: 1%; Packaging: Tape and Reel; Package Quantity: 10000; Termination: SMD/SMT; Resistor Type: Thick Film; Number of Terminations: 2; Max Power Dissipation: 63mW; Features: Moisture Resistant; Series: RC; Resistance Tolerance: 1%; Technology: THICK FILM; Construction: Rectangular; Length: 0.039inch; Width: 0.02inch; Height: 0.016inch; Depth: 0.5mm; RoHS Compliant: Yes; Military Standard: Not; Lead Free: Lead Free; Reach SVHC Compliant: Unknown; Supplier Part Number 1: 5799804
footprint R0402B/1005MM
pins: 1, 2

## RES 30K OHM 1% 1/20W 0201
designator R?, comment 30K
SMD Chip Resistor, 30 kOhm, ± 1%, 50 mW, 0201 [0603 Metric], Thick Film, General Purpose; Manufacturer: Yageo; Manufacturer Part Number: RC0201FR-0730KL; Supplier 1: Future Electronics; RoHS: Yes; Category: Chip SMD Resistors; Stock 1: 370000; Pricing 1: 10000=0.0028, 50000=0.0027, 200000=0.0026, 500000=0.0025, 1250000=0.0024 (USD); Lead Free: 5697LeadFree; ComponentLink1URL: http://www.mouser.com/ds/2/447/RC0201-559633.pdf?src-supplier=Mouser; ComponentLink1Description: http://www.mouser.com/ds/2/447/RC0201-559633.pdf?src-supplier=Mouser; ComponentLink2URL: http://www.yageo.com.tw/exep/pages/download/literatures/PYu-R_INT-thick_7.pdf?src-supplier=Digikey; ComponentLink2Description: http://www.yageo.com.tw/exep/pages/download/literatures/PYu-R_INT-thick_7.pdf?src-supplier=Digikey; ComponentLink3URL: http://www.yageo.com/documents/recent/PYu-RC_Group_51_RoHS_L_10.pdf?src-supplier=Digikey; ComponentLink3Description: http://www.yageo.com/documents/recent/PYu-RC_Group_51_RoHS_L_10.pdf?src-supplier=Digikey; ComponentLink4URL: http://www.yageo.com/documents/recent/PYu-RC_Group_51_RoHS_L_9.pdf?src-supplier=Digikey; ComponentLink4Description: http://www.yageo.com/documents/recent/PYu-RC_Group_51_RoHS_L_9.pdf?src-supplier=Digikey; ComponentLink5URL: https://datasheet.octopart.com/RC0201FR-0730KL-Yageo-datasheet-164759695.pdf?src-supplier=Future+Electronics; ComponentLink5Description: https://datasheet.octopart.com/RC0201FR-0730KL-Yageo-datasheet-164759695.pdf?src-supplier=Future+Electronics; ComponentLink6URL: http://www.yageo.com/documents/recent/PYu-RC_Group_51_RoHS_L_8.pdf?src-supplier=Future+Electronics; ComponentLink6Description: http://www.yageo.com/documents/recent/PYu-RC_Group_51_RoHS_L_8.pdf?src-supplier=Future+Electronics; Supplier Part Number 1: 9160924
footprint R0201
pins: 1, 2

## RES 33 OHM 5% 1/20W 0201
designator R?, comment 33R
Res Thick Film 0201 33 Ohm 5% 1/20W ±200ppm/°C Molded SMD SMD Paper T/R; Manufacturer: Yageo; Manufacturer Part Number: RC0201JR-0733RL; Supplier 1: Future Electronics; RoHS: Yes; Category: Chip SMD Resistors; Stock 1: 750000; Pricing 1: 10000=0.001, 50000=0.001, 200000=0.0009, 500000=0.0009, 1250000=0.0008 (USD); ComponentLink1URL: https://datasheet.ciiva.com/28639/1421516-28639874.pdf?src-supplier=Element14; ComponentLink1Description: https://datasheet.ciiva.com/28639/1421516-28639874.pdf?src-supplier=Element14; ComponentLink2URL: https://datasheet.ciiva.com/2462/pyu-r-int-thick-7-2462784.pdf?src-supplier=Digikey; ComponentLink2Description: https://datasheet.ciiva.com/2462/pyu-r-int-thick-7-2462784.pdf?src-supplier=Digikey; ComponentLink3URL: https://datasheet.ciiva.com/5924/1563626-5924926.pdf?src-supplier=Farnell; ComponentLink3Description: https://datasheet.ciiva.com/5924/1563626-5924926.pdf?src-supplier=Farnell; ComponentLink4URL: https://datasheet.ciiva.com/8889/pyu-rc0201-51-rohs-l-8-8889575.pdf?src-supplier=Avnet; ComponentLink4Description: https://datasheet.ciiva.com/8889/pyu-rc0201-51-rohs-l-8-8889575.pdf?src-supplier=Avnet; ComponentLink5URL: https://datasheet.ciiva.com/7672/1563626-7672284.pdf?src-supplier=Element14; ComponentLink5Description: https://datasheet.ciiva.com/7672/1563626-7672284.pdf?src-supplier=Element14; ComponentLink6URL: https://datasheet.ciiva.com/7672/1563626-7672285.pdf?src-supplier=Element14; ComponentLink6Description: https://datasheet.ciiva.com/7672/1563626-7672285.pdf?src-supplier=Element14; Supplier Part Number 1: 1137827
footprint R0201
pins: 1, 2

## RES 37.4K OHM 1% 1/16W 0402
designator R?, comment 37.4K
SMD Chip Resistor, 37.4 kOhm, ± 1%, 63 mW, 0402 [1005 Metric], Thick Film, General Purpose; Manufacturer: Yageo; Manufacturer Part Number: RC0402FR-0737K4L; Supplier 1: Future Electronics; RoHS: Yes; Category: Chip SMD Resistors; Stock 1: 370000; Pricing 1: 10000=0.0019, 100000=0.0018, 300000=0.0018, 750000=0.0017, 2000000=0.0016 (USD); ComponentLink1URL: https://datasheet.ciiva.com/26830/getdatasheetpartid-329258-26830071.pdf?src-supplier=Verical; ComponentLink1Description: https://datasheet.ciiva.com/26830/getdatasheetpartid-329258-26830071.pdf?src-supplier=Verical; Supplier Part Number 1: 3047265
footprint R0402B/1005MM
pins: 1, 2

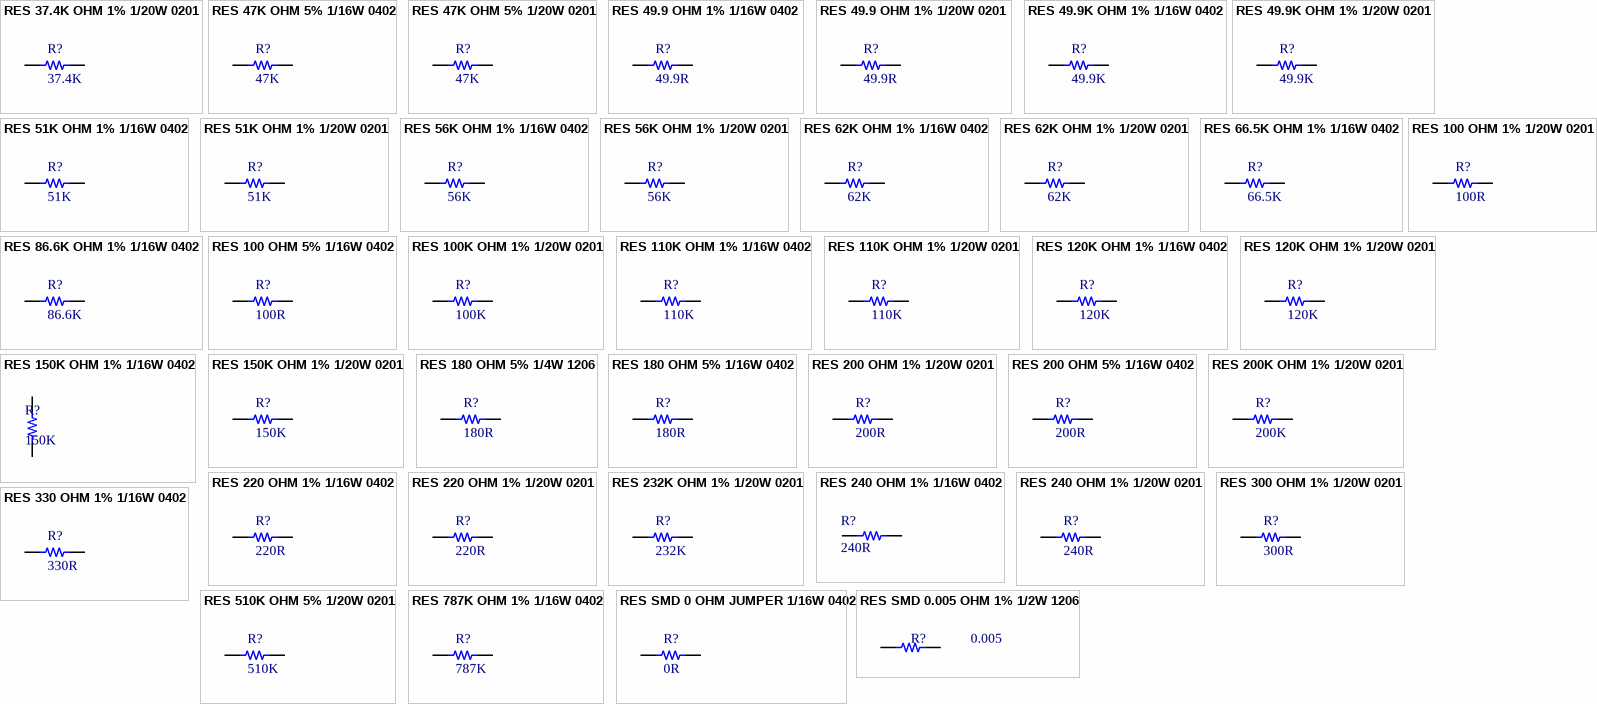
[diagram p7: symbols RES 37.4K OHM 1% 1/20W 0201 to RES SMD 0.005 OHM 1% 1/2W 1206]

## RES 37.4K OHM 1% 1/20W 0201
designator R?, comment 37.4K
SMD Chip Resistor, 37.4 kOhm, ± 1%, 50 mW, 0201 [0603 Metric], Thick Film, General Purpose; Manufacturer: Yageo; Manufacturer Part Number: RC0201FR-0737K4L; Voltage Rating: 25V; Supplier 1: Future Electronics; RoHS: Yes; Category: Chip SMD Resistors; Stock 1: 40000; Pricing 1: 10000=0.0015, 50000=0.0015, 300000=0.0014, 1000000=0.0013, 3000000=0.0012 (USD); ComponentLink1URL: https://www.yageo.com/upload/media/product/productsearch/datasheet/rchip/PYu-RC_Group_51_RoHS_L_11.pdf?src-supplier=Digikey; ComponentLink1Description: https://www.yageo.com/upload/media/product/productsearch/datasheet/rchip/PYu-RC_Group_51_RoHS_L_11.pdf?src-supplier=Digikey; ComponentLink2URL: http://www.yageo.com/documents/recent/PYu-RC_Group_51_RoHS_L_9.pdf?src-supplier=Digikey; ComponentLink2Description: http://www.yageo.com/documents/recent/PYu-RC_Group_51_RoHS_L_9.pdf?src-supplier=Digikey; ComponentLink3URL: http://www.yageo.com.tw/exep/pages/download/literatures/PYu-R_INT-thick_7.pdf?src-supplier=Digikey; ComponentLink3Description: http://www.yageo.com.tw/exep/pages/download/literatures/PYu-R_INT-thick_7.pdf?src-supplier=Digikey; Supplier Part Number 1: 8123306
footprint R0201
pins: 1, 2

## RES 47K OHM 5% 1/16W 0402
designator R?, comment 47K
SMD Chip Resistor, 47 kOhm, ± 5%, 62.5 mW, 0402 [1005 Metric], Thick Film, General Purpose; Manufacturer: Yageo; Manufacturer Part Number: RC0402JR-0747KL; Voltage Rating (AC): 50V; Supplier 1: Future Electronics; RoHS: Yes; Category: Chip SMD Resistors; Stock 1: 550000; Pricing 1: 10000=0.0008, 100000=0.0008, 400000=0.0007, 1250000=0.0007, 4000000=0.0006 (USD); Lead Free: 5697LeadFree; ComponentLink1URL: https://datasheet.ciiva.com/16740/pyu-rc0402-51-rohs-l-6-r-16740971.pdf?src-supplier=Future+Electronics; ComponentLink1Description: https://datasheet.ciiva.com/16740/pyu-rc0402-51-rohs-l-6-r-16740971.pdf?src-supplier=Future+Electronics; ComponentLink2URL: https://datasheet.ciiva.com/46394/1018594-46394970.pdf?src-supplier=Element14; ComponentLink2Description: https://datasheet.ciiva.com/46394/1018594-46394970.pdf?src-supplier=Element14; ComponentLink3URL: https://datasheet.ciiva.com/7850/1018594-7850218.pdf?src-supplier=Element14; ComponentLink3Description: https://datasheet.ciiva.com/7850/1018594-7850218.pdf?src-supplier=Element14; ComponentLink4URL: https://datasheet.ciiva.com/7850/1018594-7850219.pdf?src-supplier=Element14; ComponentLink4Description: https://datasheet.ciiva.com/7850/1018594-7850219.pdf?src-supplier=Element14; ComponentLink5URL: https://datasheet.ciiva.com/2452/pyu-r-int-thick-7-2452641.pdf?src-supplier=Digikey; ComponentLink5Description: https://datasheet.ciiva.com/2452/pyu-r-int-thick-7-2452641.pdf?src-supplier=Digikey; ComponentLink6URL: https://datasheet.ciiva.com/2452/pyu-r-int-thick-7-2452642.pdf?src-supplier=Digikey; ComponentLink6Description: https://datasheet.ciiva.com/2452/pyu-r-int-thick-7-2452642.pdf?src-supplier=Digikey; ComponentLink7URL: https://datasheet.ciiva.com/2452/pyu-r-int-thick-7-2452643.pdf?src-supplier=Digikey; ComponentLink7Description: https://datasheet.ciiva.com/2452/pyu-r-int-thick-7-2452643.pdf?src-supplier=Digikey; ComponentLink8URL: https://datasheet.ciiva.com/12667/pyu-rc0402-51-rohs-l-6-r-12667910.pdf?src-supplier=Mouser; ComponentLink8Description: https://datasheet.ciiva.com/12667/pyu-rc0402-51-rohs-l-6-r-12667910.pdf?src-supplier=Mouser; Supplier Part Number 1: 7134380
footprint R0402B/1005MM
pins: 1, 2

## RES 47K OHM 5% 1/20W 0201
designator R?, comment 47K
SMD Chip Resistor, 47 kOhm, ± 5%, 50 mW, 0201 [0603 Metric], Thick Film, General Purpose; Manufacturer: Yageo; Manufacturer Part Number: RC0201JR-0747KL; Voltage Rating (DC): 25V; Supplier 1: Future Electronics; RoHS: Yes; Category: Chip SMD Resistors; Stock 1: 30000; Pricing 1: 10000=0.001, 50000=0.001, 200000=0.0009, 500000=0.0009, 1250000=0.0008 (USD); Lead Free: 5697LeadFree; ComponentLink1URL: https://datasheet.ciiva.com/8889/pyu-rc0201-51-rohs-l-8-8889071.pdf?src-supplier=Avnet; ComponentLink1Description: https://datasheet.ciiva.com/8889/pyu-rc0201-51-rohs-l-8-8889071.pdf?src-supplier=Avnet; ComponentLink2URL: https://datasheet.ciiva.com/2492/pyu-r-int-thick-7-2492965.pdf?src-supplier=Digikey; ComponentLink2Description: https://datasheet.ciiva.com/2492/pyu-r-int-thick-7-2492965.pdf?src-supplier=Digikey; ComponentLink3URL: https://datasheet.ciiva.com/2492/pyu-r-int-thick-7-2492966.pdf?src-supplier=Digikey; ComponentLink3Description: https://datasheet.ciiva.com/2492/pyu-r-int-thick-7-2492966.pdf?src-supplier=Digikey; ComponentLink4URL: https://datasheet.ciiva.com/2492/pyu-r-int-thick-7-2492967.pdf?src-supplier=Digikey; ComponentLink4Description: https://datasheet.ciiva.com/2492/pyu-r-int-thick-7-2492967.pdf?src-supplier=Digikey; ComponentLink5URL: https://datasheet.ciiva.com/5989/1563626-5989624.pdf?src-supplier=Farnell; ComponentLink5Description: https://datasheet.ciiva.com/5989/1563626-5989624.pdf?src-supplier=Farnell; Supplier Part Number 1: 8921348
footprint R0201
pins: 1, 2

## RES 49.9 OHM 1% 1/16W 0402
designator R?, comment 49.9R
SMD Chip Resistor, 49.9 Ohm, ± 1%, 62.5 mW, 0402 [1005 Metric], Thick Film, General Purpose; Manufacturer: Yageo; Manufacturer Part Number: RC0402FR-0749R9L; Power Rating: 62.5mW; Voltage Rating: 50V; Temperature Coefficient: 100ppm/°C; Max Power Dissipation: 63mW; Supplier 1: Digikey; RoHS: Yes; Category: Chip SMD Resistors; Stock 1: 1830272; Pricing 1: 1=0.1, 10=0.015, 50=0.0088, 100=0.0073, 500=0.00488, 1000=0.00417, 5000=0.00297, 10000=0.00261, 20000=0.00231, 30000=0.00216, 50000=0.00199, 100000=0.00179 (USD); Case/Package: 0402; Number of Pins: 2NUMBER; Case Code (Imperial): 0402; Case Code (Metric): 1005; Min Operating Temperature: -55°C; Max Operating Temperature: 155°C; Packaging: Tape and Reel; Resistance: 49.9R; Tolerance: 1%; Package Quantity: 1; Termination: SMD/SMT; Resistor Type: Thick Film; Number of Terminations: 2; Working Voltage: 50V; Features: Moisture Resistant; Series: RC; Construction: Rectangular; Resistance Tolerance: 1%; Technology: THICK FILM; Voltage Rating (DC): 50V; Length: 1mm; Width: 0.02inch; Height: 0.016inch; Depth: 0.5mm; Reach SVHC Compliant: No; Military Standard: Not; RoHS Compliant: Yes; Lead Free: 5697LeadFree; ComponentLink1URL: https://datasheet.ciiva.com/11819/0900766b80c66297-11819508.pdf?src-supplier=Rs; ComponentLink1Description: https://datasheet.ciiva.com/11819/0900766b80c66297-11819508.pdf?src-supplier=Rs; ComponentLink2URL: https://datasheet.ciiva.com/7983/1018594-7983542.pdf?src-supplier=Element14; ComponentLink2Description: https://datasheet.ciiva.com/7983/1018594-7983542.pdf?src-supplier=Element14; ComponentLink3URL: https://datasheet.ciiva.com/22747/1018594-22747514.pdf?src-supplier=Element14; ComponentLink3Description: https://datasheet.ciiva.com/22747/1018594-22747514.pdf?src-supplier=Element14; ComponentLink4URL: https://datasheet.ciiva.com/2453/pyu-r-int-thick-7-2453356.pdf?src-supplier=Digikey; ComponentLink4Description: https://datasheet.ciiva.com/2453/pyu-r-int-thick-7-2453356.pdf?src-supplier=Digikey; ComponentLink5URL: https://datasheet.ciiva.com/2453/pyu-r-int-thick-7-2453357.pdf?src-supplier=Digikey; ComponentLink5Description: https://datasheet.ciiva.com/2453/pyu-r-int-thick-7-2453357.pdf?src-supplier=Digikey; ComponentLink6URL: https://datasheet.ciiva.com/2453/pyu-r-int-thick-7-2453355.pdf?src-supplier=Digikey; ComponentLink6Description: https://datasheet.ciiva.com/2453/pyu-r-int-thick-7-2453355.pdf?src-supplier=Digikey; ComponentLink7URL: https://datasheet.ciiva.com/16743/pyu-rc0402-51-rohs-l-6-r-16743942.pdf?src-supplier=Future+Electronics; ComponentLink7Description: https://datasheet.ciiva.com/16743/pyu-rc0402-51-rohs-l-6-r-16743942.pdf?src-supplier=Future+Electronics; Supplier Part Number 1: 311-49.9LRCT-ND
footprint R0402B/1005MM
pins: 1, 2